# Altium footprint library CFP-15-3.PcbLib: 1 footprints
Each footprint in its own frame and in the unit in brackets; x right, y up, seen from the top. Pads: shape width x height; smd on the part's side, far side on the other; paste and mask are expansions set on the pad; w line width, h text height; cw(c..) or ccw(c..) is an arc to the next point about the centre after c.
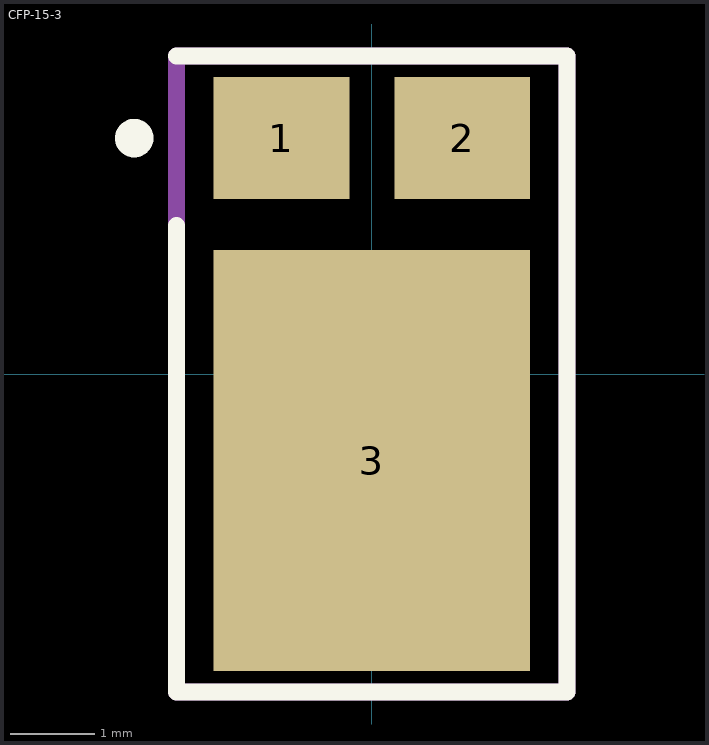
[diagram p0: the footprint, top view; thin cyan lines are the x and y axes]

## CFP-15-3 [mm]
height 0.78
pads (3):
  rect 1.6x1.44 smd mask+0: 1(-1.065,2.78) 2(1.065,2.78)
  rect 3.73x4.96 smd mask+0: 3(0,-1.02)
Top Overlay:
  circle w0.254: c-2.8,2.78 r0.1
  lines w0.2: -2.3,1.75 -2.3,-3.75 2.3,-3.75 2.3,3.75 -2.3,3.75
Mechanical 13:
  lines w0.2: -2.3,-3.75 2.3,-3.75 2.3,3.75 -2.3,3.75 -2.3,-3.75
Mechanical 15:
  lines w0.2: -0.3,0 0,0 ; 0,-0.3 0,0 ; 0,0.3 0,0 ; 0.3,0 0,0
3D body "CFP-15-3.stp": height 0.78, standoff 0, extent -2.3,-3.75 2.3,3.75